# Altium integrated library Analog Devices Data Converters Digital-to-Analog Converters.IntLib: 2231 symbols (part 181 of 181)
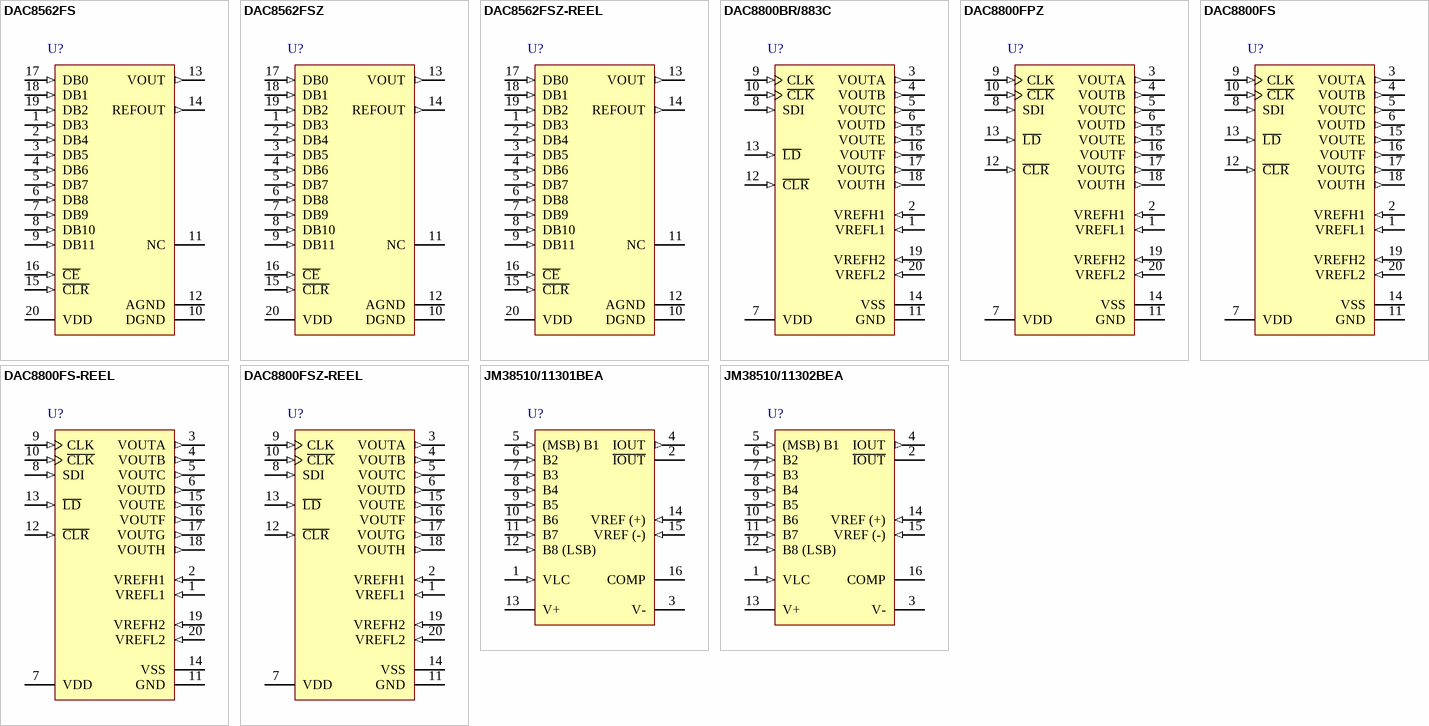
[diagram p294: symbols DAC8562FS to JM38510/11302BEA]

## JM38510/11302BEA
designator U?
Single 8-Bit Multiplying Digital-to-Analog Converter with Universal Digital Logic Interface, Q-16, Tube; Generic Part Number: DAC08; Manufacturer: Analog Devices; PartNumber: JM38510/11302BEA; # DAC Outputs: 1; Max V+: 18V; Op Pwr Diss: 33mW; Resolution (Bits): 8; Settling Time: 85ns; Single Supply: No; DatasheetVersion: Rev.C; PackageVersion: 1996; PackageReference: Q-16; PackageDescription: DIP, 16-Pin, Skinny Dual In-line Package, 300mil Wide, Pitch 2.54 mm; Supplier 1: Newark; Supplier Part Number 1: 09B8249; Supplier 2: Mouser; Supplier Part Number 2: 584-JM3851011302BEA; Packing: Tube; RoHS: N; Mounting Technology: Through Hole; ComponentLink1Description: Manufacturer URL; ComponentLink1URL: http://www.analog.com/en/index.html; ComponentLink2Description: Datasheet; ComponentLink2URL: http://www.analog.com/static/imported-files/data_sheets/DAC08.pdf; ComponentLink3Description: Package Specification; ComponentLink3URL: http://www.analog.com/static/imported-files/packages/54083157002221Q_16.pdf; ComponentLink4Description: Product URL; ComponentLink4URL: http://www.analog.com/en/digital-to-analog-converters/da-converters/dac08/products/product.html
footprint Q-16 (DIP, 16-Leads, Row Spacing 7.62mm, Pitch 2.54mm, Body 20.07x6.73mm)
pins: 1 VLC (in), 2 ~{IOUT}, 3 V- (power), 4 IOUT (out), 5 (MSB) B1 (in), 6 B2 (in), 7 B3 (in), 8 B4 (in), 9 B5 (in), 10 B6 (in), 11 B7 (in), 12 B8 (LSB) (in), 13 V+ (power), 14 VREF (+) (in), 15 VREF (-) (in), 16 COMP